# Altium footprint library 47053-1000.PcbLib: 1 footprints
Each footprint in its own frame and in the unit in brackets; x right, y up, seen from the top. Pads: shape width x height; smd on the part's side, far side on the other; paste and mask are expansions set on the pad; w line width, h text height; cw(c..) or ccw(c..) is an arc to the next point about the centre after c.
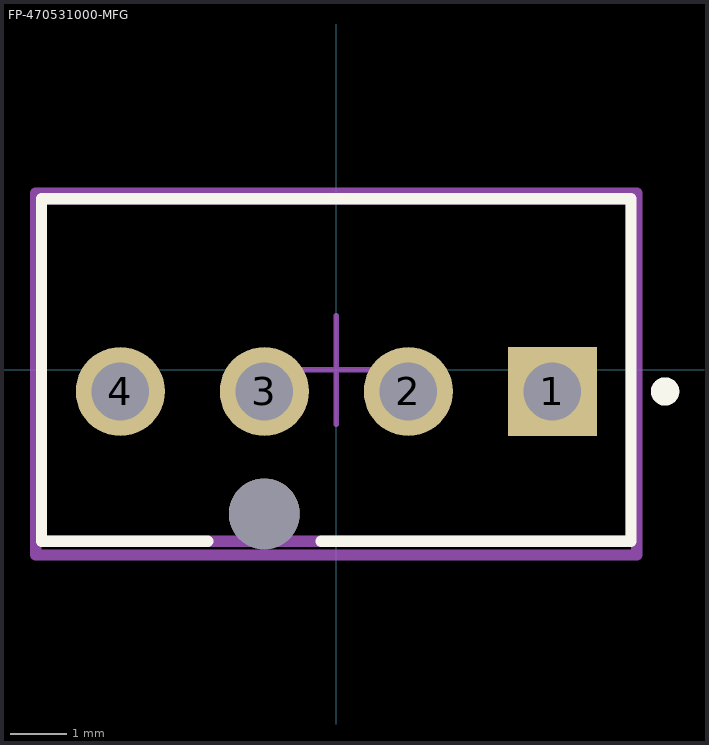
[diagram p0: the footprint, top view; thin cyan lines are the x and y axes]

## FP-470531000-MFG [mm]
pads (5):
  rect 1.57x1.57 hole 1.02 paste-2539.97 mask+0: 1(3.81,-0.38)
  round 1.57 hole 1.02 paste-2539.97 mask+0: 2(1.27,-0.38) 3(-1.27,-0.38) 4(-3.81,-0.38)
  round 1.25 hole 1.25 unplated paste-2539.97 mask+0: ""(-1.27,-2.54)
Top Overlay:
  circle w0.25: c5.8,-0.38 r0.125
  lines w0.2: -2.27,-3.02 -5.2,-3.02 -5.2,3.02 5.2,3.02 5.2,-3.02 -0.27,-3.02
Top Assembly:
  lines w0.2: -5.3,-3.265 -5.3,3.12 5.3,3.12 5.3,-3.265 -5.3,-3.265
  text ".Designator" at 0,-0.073 h1
Top 3D Body:
  lines w0.2: -5.2,-3.02 -5.2,3.02 5.2,3.02 5.2,-3.02 -5.2,-3.02
Top Courtyard:
  lines w0.2: -5.3,-3.265 -5.3,3.12 5.3,3.12 5.3,-3.265 -5.3,-3.265
Top Component Center:
  lines w0.1: -0.958,0 0.958,0 ; 0,-0.958 0,0.958
3D body "Conn_Molex_470531000_eec.STEP": height 0.25, standoff 0, extent -5.3,-3.265 5.3,3.12